# Altium integrated library BD139.IntLib: 1 symbol
Pins are listed as number, name and electrical type; pins without a type are passive.

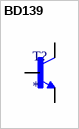
[diagram p0: symbol BD139]

## BD139
designator T?
Bipolar (BJT) Transistor NPN 80V 1.5A 1.25W Through Hole TO-126-3; MP: BD139; MF: ON Semiconductor; Digi-Key_Part_Number: BD13916S-ND; Check_prices: https://www.snapeda.com/parts/BD139/ON%20Semiconductor/view-part/2781881/?ref=eda; Value: *; SnapEDA_Link: https://www.snapeda.com/parts/BD139/ON%20Semiconductor/view-part/2781881/?ref=snap; Package: TO-225-3 ON Semiconductor
footprint TO126
pins: 1 E, 2 C, 3 B